# Altium footprint library SOT.PcbLib: 25 footprints (part 1 of 2)
Each footprint in its own frame and in the unit in brackets; x right, y up, seen from the top. Pads: shape width x height; smd on the part's side, far side on the other; paste and mask are expansions set on the pad; w line width, h text height; cw(c..) or ccw(c..) is an arc to the next point about the centre after c.
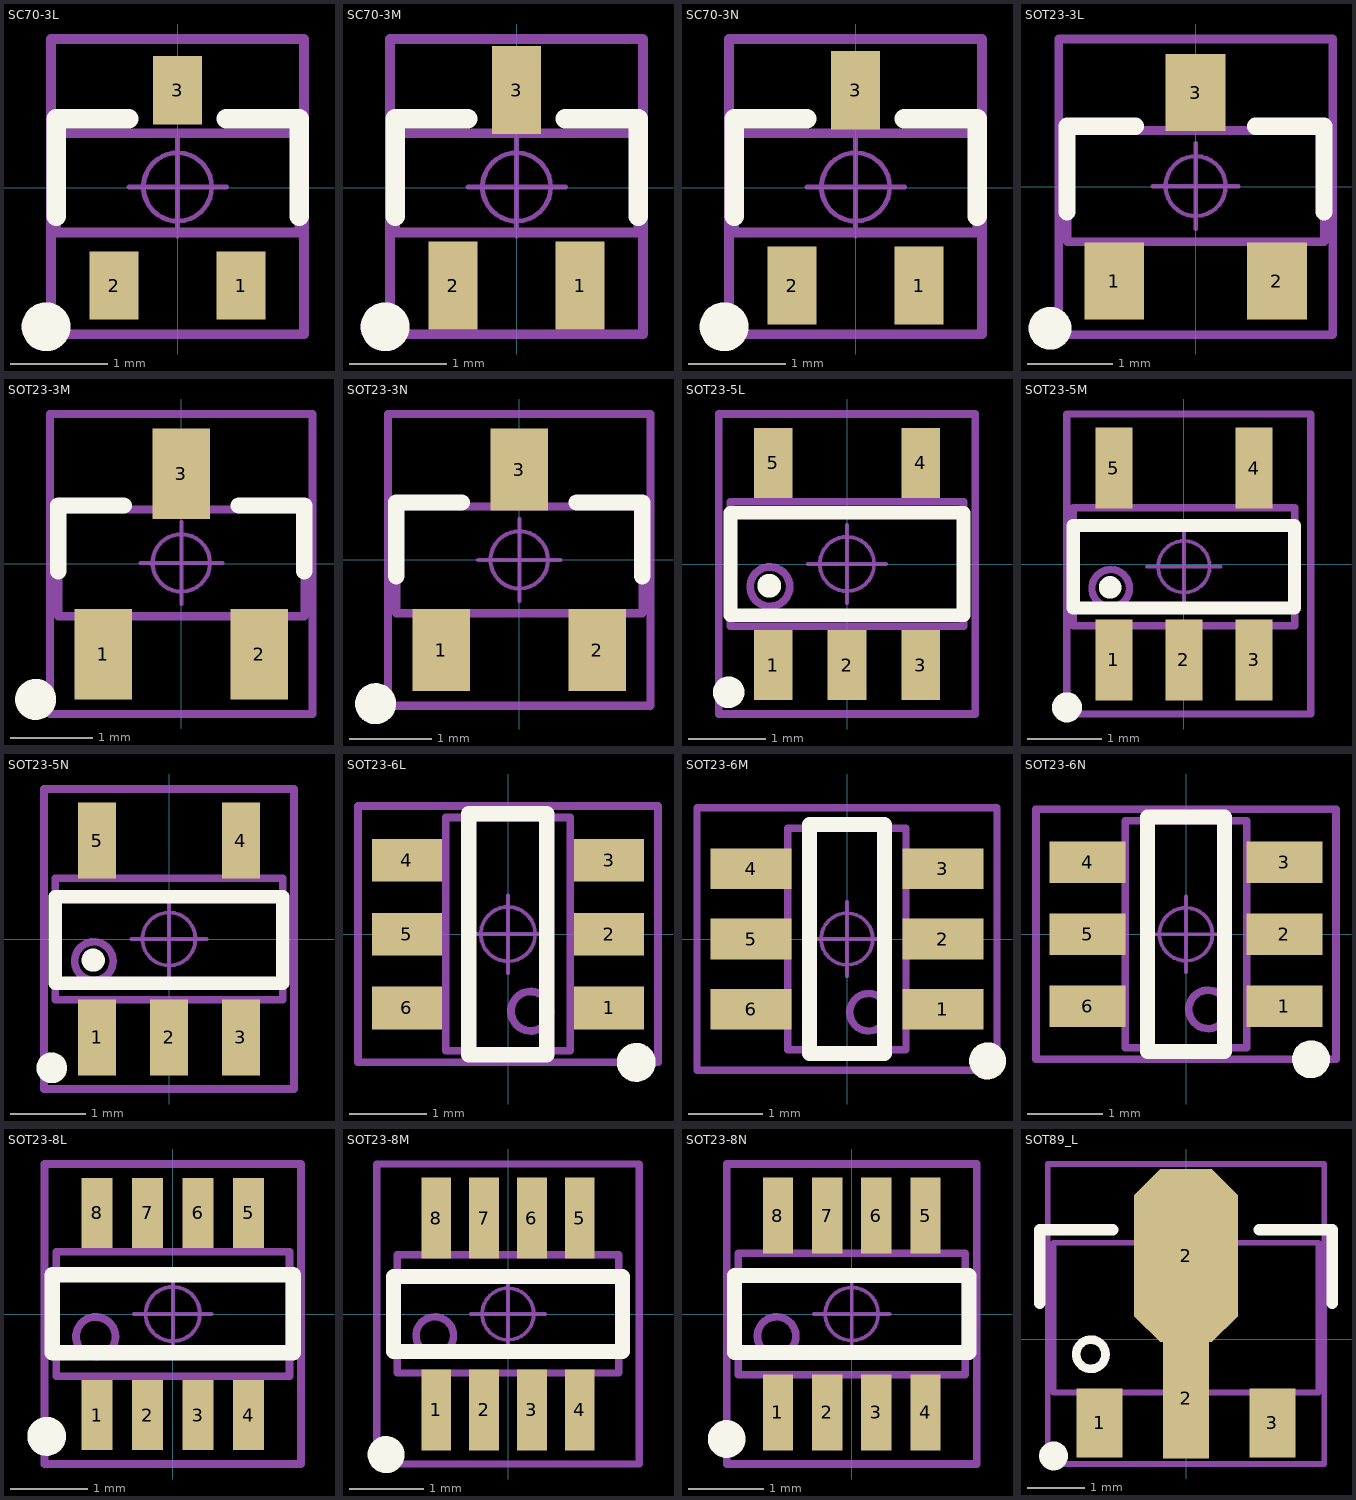
[diagram p0: the footprints below, top view; thin cyan lines are the x and y axes]

## SC70-3L [mm] "2x2.2x0.9mm(长宽高)"
height 0.9
pads (3):
  rect 0.5x0.7 smd: 1(0.65,-1) 2(-0.65,-1) 3(0,1)
Top Overlay:
  circle w0.25: c-1.346,-1.422 r0.125
  lines w0.2: -1.245,-0.291 -1.245,0.709 -0.5,0.709 ; 0.5,0.709 1.245,0.709 1.245,-0.291
Mechanical 13:
  lines w0.1: -1.245,-0.457 1.245,-0.457 1.245,0.559 -1.245,0.559 -1.245,-0.457
Mechanical 15:
  circle w0.05: c0,0.009 r0.35
  lines w0.05: -0.5,0.009 0.5,0.009 ; 0,-0.491 0,0.509
  lines w0.1: -1.295,-1.499 1.295,-1.499 1.295,1.524 -1.295,1.524 -1.295,-1.499
3D body "User Library-SOT323 (SC70-3)-1.STEP": height 1.1, standoff 0, extent -1.092,-1.148 1.108,1.097

## SC70-3M [mm] "2x2.2x0.9mm(长宽高)"
height 0.9
pads (3):
  rect 0.5x0.9 smd: 1(0.65,-1) 2(-0.65,-1) 3(0,1)
Top Overlay:
  circle w0.25: c-1.346,-1.422 r0.125
  lines w0.2: -1.245,-0.291 -1.245,0.709 -0.5,0.709 ; 0.5,0.709 1.245,0.709 1.245,-0.291
Mechanical 13:
  lines w0.1: -1.245,-0.457 1.245,-0.457 1.245,0.559 -1.245,0.559 -1.245,-0.457
Mechanical 15:
  circle w0.05: c0,0.009 r0.35
  lines w0.05: -0.5,0.009 0.5,0.009 ; 0,-0.491 0,0.509
  lines w0.1: -1.295,-1.499 1.295,-1.499 1.295,1.524 -1.295,1.524 -1.295,-1.499
3D body "User Library-SOT323 (SC70-3)-1.STEP": height 1.1, standoff 0, extent -1.092,-1.148 1.108,1.097

## SC70-3N [mm] "2x2.2x0.9mm(长宽高)"
height 0.9
pads (3):
  rect 0.5x0.8 smd: 1(0.65,-1) 2(-0.65,-1) 3(0,1)
Top Overlay:
  circle w0.25: c-1.346,-1.422 r0.125
  lines w0.2: -1.245,-0.291 -1.245,0.709 -0.5,0.709 ; 0.5,0.709 1.245,0.709 1.245,-0.291
Mechanical 13:
  lines w0.1: -1.245,-0.457 1.245,-0.457 1.245,0.559 -1.245,0.559 -1.245,-0.457
Mechanical 15:
  circle w0.05: c0,0.009 r0.35
  lines w0.05: -0.5,0.009 0.5,0.009 ; 0,-0.491 0,0.509
  lines w0.1: -1.295,-1.499 1.295,-1.499 1.295,1.524 -1.295,1.524 -1.295,-1.499
3D body "User Library-SOT323 (SC70-3)-1.STEP": height 1.1, standoff 0, extent -1.092,-1.148 1.108,1.097

## SOT23-3L [mm] "3x1.3x1mm(长宽高)"
height 1.1
pads (3):
  rect 0.7x0.9 smd: 1(-0.95,-1.1) 2(0.95,-1.1) 3(0,1.1)
Top Overlay:
  circle w0.25: c-1.7,-1.651 r0.125
  lines w0.2: -1.5,-0.291 -1.5,0.709 -0.7,0.709 ; 0.7,0.709 1.5,0.709 1.5,-0.291
Mechanical 13:
  lines w0.1: -1.5,-0.641 1.5,-0.641 1.5,0.659 -1.5,0.659 -1.5,-0.641
Mechanical 15:
  circle w0.05: c0,0.009 r0.35
  lines w0.05: -0.5,0.009 0.5,0.009 ; 0,-0.491 0,0.509
  lines w0.1: -1.6,-1.727 1.6,-1.727 1.6,1.727 -1.6,1.727 -1.6,-1.727
3D body "SOT23-3.STEP": height 1.05, standoff 0, extent -1.5,-1.191 1.5,1.209

## SOT23-3M [mm] "3x1.3x1mm(长宽高)"
height 1.1
pads (3):
  rect 0.7x1.1 smd: 1(-0.95,-1.1) 2(0.95,-1.1) 3(0,1.1)
Top Overlay:
  circle w0.25: c-1.776,-1.651 r0.125
  lines w0.2: -1.5,-0.087 -1.5,0.713 -0.7,0.713 ; 0.7,0.713 1.5,0.713 1.5,-0.087
Mechanical 13:
  lines w0.1: -1.5,-0.637 -1.5,0.663 1.5,0.663 1.5,-0.637 -1.5,-0.637
Mechanical 15:
  circle w0.05: c0,0.013 r0.35
  lines w0.05: -0.5,0.013 0.5,0.013 ; 0,-0.487 0,0.513
  lines w0.1: -1.6,-1.829 -1.6,1.829 1.6,1.829 1.6,-1.829 -1.6,-1.829
3D body "SOT23-3.STEP": height 1.05, standoff 0, extent -1.5,-1.187 1.5,1.213

## SOT23-3N [mm] "3x1.3x1mm(长宽高)"
height 1.1
pads (3):
  rect 0.7x1 smd: 1(-0.95,-1.1) 2(0.95,-1.1) 3(0,1.1)
Top Overlay:
  circle w0.25: c-1.751,-1.753 r0.125
  lines w0.2: -1.501,-0.2 -1.501,0.7 -0.701,0.7 ; 0.699,0.7 1.499,0.7 1.499,-0.2
Mechanical 13:
  lines w0.1: -1.5,-0.65 -1.5,0.65 1.5,0.65 1.5,-0.65 -1.5,-0.65
Mechanical 15:
  circle w0.05: c0,0 r0.35
  lines w0.05: -0.5,0 0.5,0 ; 0,-0.5 0,0.5
  lines w0.1: -1.6,-1.778 -1.6,1.778 1.6,1.778 1.6,-1.778 -1.6,-1.778
3D body "SOT23-3.STEP": height 1.05, standoff 0, extent -1.5,-1.2 1.5,1.2

## SOT23-5L [mm] "3x1.6x1.1mm(长宽高)"
pads (5):
  rect 0.5x0.9 smd: 1(-0.95,-1.3) 2(0,-1.3) 3(0.95,-1.3) 4(0.95,1.3) 5(-0.95,1.3)
Top Overlay:
  circle w0.254: c-1.524,-1.651 r0.076
  circle w0.254: c-1.001,-0.279 r0.025
  lines w0.178: -1.5,-0.66 -1.5,0.66 1.5,0.66 1.5,-0.66 -1.5,-0.66
Mechanical 13:
  circle w0.1: c-0.992,-0.292 r0.254
  lines w0.1: -1.5,-0.8 1.5,-0.8 1.5,0.8 -1.5,0.8 -1.5,-0.8
Mechanical 15:
  circle w0.05: c0,0 r0.35
  lines w0.05: -0.5,0 0.5,0 ; 0,-0.5 0,0.5
  lines w0.1: -1.651,-1.93 1.651,-1.93 1.651,1.93 -1.651,1.93 -1.651,-1.93
3D body "SOT23-5.STEP": height 1.15, standoff -0.03, extent -1.5,-1.403 1.5,1.403

## SOT23-5M [mm] "3x1.6x1.1mm(长宽高)"
pads (5):
  rect 0.5x1.1 smd: 1(-0.95,-1.3) 2(0,-1.3) 3(0.95,-1.3) 4(0.95,1.3) 5(-0.95,1.3)
Top Overlay:
  circle w0.254: c-1.585,-1.941 r0.076
  circle w0.254: c-1.001,-0.317 r0.025
  lines w0.178: -1.5,-0.597 1.5,-0.597 1.5,0.521 -1.5,0.521 -1.5,-0.597
Mechanical 13:
  circle w0.1: c-0.992,-0.328 r0.254
  lines w0.1: -1.5,-0.836 -1.5,0.764 1.5,0.764 1.5,-0.836 -1.5,-0.836
Mechanical 15:
  circle w0.05: c0,-0.036 r0.35
  lines w0.05: -0.5,-0.036 0.5,-0.036 ; 0,-0.536 0,0.464
  lines w0.1: -1.585,-2.032 -1.585,2.032 1.717,2.032 1.717,-2.032 -1.585,-2.032
3D body "SOT23-5.STEP": height 1.15, standoff -0.03, extent -1.5,-1.44 1.5,1.367

## SOT23-5N [mm] "3x1.6x1.1mm(长宽高)"
pads (5):
  rect 0.5x1 smd: 1(-0.95,-1.3) 2(0,-1.3) 3(0.95,-1.3) 4(0.95,1.3) 5(-0.95,1.3)
Top Overlay:
  circle w0.254: c-1.001,-0.279 r0.025
  circle w0.254: c-1.549,-1.702 r0.076
  lines w0.178: -1.5,-0.584 1.5,-0.584 1.5,0.559 -1.5,0.559 -1.5,-0.584
Mechanical 13:
  circle w0.1: c-0.992,-0.292 r0.254
  lines w0.1: -1.5,-0.8 1.5,-0.8 1.5,0.8 -1.5,0.8 -1.5,-0.8
Mechanical 15:
  circle w0.05: c0,0 r0.35
  lines w0.05: -0.5,0 0.5,0 ; 0,-0.5 0,0.5
  lines w0.1: -1.651,-1.981 -1.651,1.981 1.651,1.981 1.651,-1.981 -1.651,-1.981
3D body "SOT23-5.STEP": height 1.15, standoff -0.03, extent -1.5,-1.403 1.5,1.403

## SOT23-6L [mm] "3x1.6x1.1mm(长宽高)"
height 1.45
pads (6):
  rect 0.9x0.55 smd: 1(1.3,-0.95) 2(1.3,0) 3(1.3,0.95) 4(-1.3,0.95) 5(-1.3,0) 6(-1.3,-0.95)
Top Overlay:
  circle w0.25: c1.651,-1.65 r0.125
  lines w0.2: -0.508,-1.55 0.5,-1.55 0.5,1.55 -0.508,1.55 -0.508,-1.55
Mechanical 13:
  circle w0.1: c0.292,-0.992 r0.254
  lines w0.1: -0.8,-1.5 -0.8,1.5 0.8,1.5 0.8,-1.5 -0.8,-1.5
Mechanical 15:
  circle w0.05: c0,0 r0.35
  lines w0.05: -0.5,0 0.5,0 ; 0,-0.5 0,0.5
  lines w0.1: -1.93,-1.65 -1.93,1.65 1.93,1.65 1.93,-1.65 -1.93,-1.65
3D body "SOT23-6.STEP": height 1.15, standoff -0.03, extent -1.403,-1.5 1.404,1.5

## SOT23-6M [mm] "3x1.6x1.1mm(长宽高)"
height 1.45
pads (6):
  rect 1.1x0.55 smd: 1(1.3,-0.95) 2(1.3,0) 3(1.3,0.95) 4(-1.3,0.95) 5(-1.3,0) 6(-1.3,-0.95)
Top Overlay:
  circle w0.25: c1.905,-1.651 r0.125
  lines w0.2: -0.508,-1.55 -0.508,1.55 0.508,1.55 0.508,-1.55 -0.508,-1.55
Mechanical 13:
  circle w0.1: c0.292,-0.992 r0.254
  lines w0.1: -0.8,-1.5 0.8,-1.5 0.8,1.5 -0.8,1.5 -0.8,-1.5
Mechanical 15:
  circle w0.05: c0,0 r0.35
  lines w0.05: -0.5,0 0.5,0 ; 0,-0.5 0,0.5
  lines w0.1: -2.032,-1.778 2.032,-1.778 2.032,1.778 -2.032,1.778 -2.032,-1.778
3D body "SOT23-6.STEP": height 1.15, standoff -0.03, extent -1.403,-1.5 1.403,1.5

## SOT23-6N [mm] "3x1.6x1.1mm(长宽高)"
height 1.45
pads (6):
  rect 1x0.55 smd: 1(1.3,-0.95) 2(1.3,0) 3(1.3,0.95) 4(-1.3,0.95) 5(-1.3,0) 6(-1.3,-0.95)
Top Overlay:
  circle w0.25: c1.651,-1.651 r0.125
  lines w0.2: -0.508,-1.55 -0.508,1.55 0.508,1.55 0.508,-1.55 -0.508,-1.55
Mechanical 13:
  circle w0.1: c0.292,-0.992 r0.254
  lines w0.1: -0.8,-1.5 0.8,-1.5 0.8,1.5 -0.8,1.5 -0.8,-1.5
Mechanical 15:
  circle w0.05: c0,0 r0.35
  lines w0.05: -0.5,0 0.5,0 ; 0,-0.5 0,0.5
  lines w0.1: -1.981,-1.651 1.981,-1.651 1.981,1.651 -1.981,1.651 -1.981,-1.651
3D body "SOT23-6.STEP": height 1.15, standoff -0.03, extent -1.403,-1.5 1.403,1.5

## SOT23-8L [mm] "3x1.6x1.1mm(长宽高)"
height 1.45
pads (8):
  rect 0.4x0.9 smd: 1(-0.975,-1.3) 2(-0.325,-1.3) 3(0.325,-1.3) 4(0.975,-1.3) 5(0.975,1.3) 6(0.325,1.3) 7(-0.325,1.3) 8(-0.975,1.3)
Top Overlay:
  circle w0.25: c-1.624,-1.575 r0.125
  lines w0.2: -1.55,-0.5 1.55,-0.5 1.55,0.508 -1.55,0.508 -1.55,-0.5
Mechanical 13:
  circle w0.1: c-0.992,-0.292 r0.254
  lines w0.1: -1.5,-0.8 -1.5,0.8 1.5,0.8 1.5,-0.8 -1.5,-0.8
Mechanical 15:
  circle w0.05: c0,0 r0.35
  lines w0.05: -0.5,0 0.5,0 ; 0,-0.5 0,0.5
  lines w0.1: -1.65,-1.93 -1.65,1.93 1.65,1.93 1.65,-1.93 -1.65,-1.93
3D body "SOT23-8.STEP": height 1.15, standoff 0, extent -1.5,-1.403 1.5,1.403

## SOT23-8M [mm] "3x1.6x1.1mm(长宽高)"
height 1.45
pads (8):
  rect 0.4x1.1 smd: 1(-0.975,-1.3) 2(-0.325,-1.3) 3(0.325,-1.3) 4(0.975,-1.3) 5(0.975,1.3) 6(0.325,1.3) 7(-0.325,1.3) 8(-0.975,1.3)
Top Overlay:
  circle w0.25: c-1.651,-1.905 r0.125
  lines w0.2: -1.55,-0.508 1.55,-0.508 1.55,0.508 -1.55,0.508 -1.55,-0.508
Mechanical 13:
  circle w0.1: c-0.992,-0.292 r0.254
  lines w0.1: -1.5,-0.8 -1.5,0.8 1.5,0.8 1.5,-0.8 -1.5,-0.8
Mechanical 15:
  circle w0.05: c0,0 r0.35
  lines w0.05: -0.5,0 0.5,0 ; 0,-0.5 0,0.5
  lines w0.1: -1.778,-2.032 -1.778,2.032 1.778,2.032 1.778,-2.032 -1.778,-2.032
3D body "SOT23-8.STEP": height 1.15, standoff 0, extent -1.5,-1.403 1.5,1.403

## SOT23-8N [mm] "3x1.6x1.1mm(长宽高)"
height 1.45
pads (8):
  rect 0.4x1 smd: 1(-0.975,-1.3) 2(-0.325,-1.3) 3(0.325,-1.3) 4(0.975,-1.3) 5(0.975,1.3) 6(0.325,1.3) 7(-0.325,1.3) 8(-0.975,1.3)
Top Overlay:
  circle w0.25: c-1.651,-1.651 r0.125
  lines w0.2: -1.55,-0.508 -1.55,0.508 1.55,0.508 1.55,-0.508 -1.55,-0.508
Mechanical 13:
  circle w0.1: c-0.992,-0.292 r0.254
  lines w0.1: -1.5,-0.8 1.5,-0.8 1.5,0.8 -1.5,0.8 -1.5,-0.8
Mechanical 15:
  circle w0.05: c0,0 r0.35
  lines w0.05: -0.5,0 0.5,0 ; 0,-0.5 0,0.5
  lines w0.1: -1.651,-1.981 1.651,-1.981 1.651,1.981 -1.651,1.981 -1.651,-1.981
3D body "SOT23-8.STEP": height 1.15, standoff 0, extent -1.5,-1.403 1.5,1.403

## SOT89_L [mm] "4.6x4.3x1.6mm(长宽高)"
height 1.6
pads (4):
  rect 0.8x1.2 smd: 1(-1.5,-1.451) 3(1.5,-1.451)
  rect 0.8x2.1 smd: 2(0,-1.021)
  oct 1.8x3 smd: 2(0,1.452)
Top Overlay:
  circle w0.25: c-2.3,-2.025 r0.125
  circle w0.15: c-1.651,-0.259 r0.254
  lines w0.2: -2.54,0.63 -2.54,1.9 -1.27,1.9 ; 1.27,1.9 2.54,1.9 2.54,0.63
Mechanical 13:
  circle w0.1: c-1.651,-0.259 r0.25
  lines w0.1: -2.3,-0.924 2.3,-0.924 2.3,1.676 -2.3,1.676 -2.3,-0.924
Mechanical 15:
  circle w0.05: c0,0.376 r0.35
  lines w0.05: -0.5,0.376 0.5,0.376 ; 0,-0.124 0,0.875
  lines w0.1: -2.4,-2.164 2.4,-2.164 2.4,3.043 -2.4,3.043 -2.4,-2.164
3D body "SOT89.STEP": height 1.6, standoff 0.04, extent -2.314,-1.775 2.286,2.526